# EAGLE library part MCP4922 (library nonolith)
MCP4922 12b SPI DAC
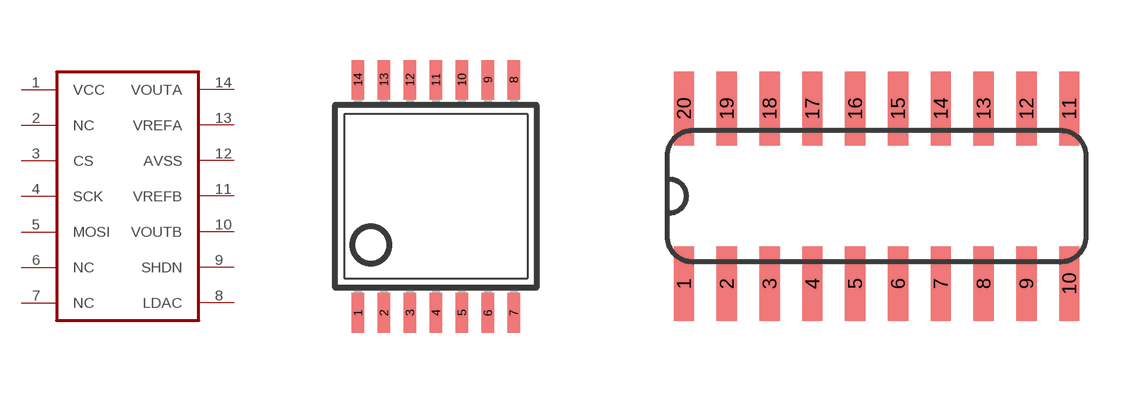
[diagram p14: symbol with the pads of TSSOP-14; footprints TSSOP-14, SO-20]

Designator prefix -

## MCP4922TSSOP  [TSSOP-14]
1  VCC
2  NC
3  CS
4  SCK
5  MOSI
6  NC
7  NC
8  LDAC
9  SHDN
10  VOUTB
11  VREFB
12  AVSS
13  VREFA
14  VOUTA

## MCP4922SOIC  [SO-20]
Pads as for TSSOP-14

## Footprint TSSOP-14 (pad centres in mm)
smd 0.305 x 0.991: 1 -1.95,-2.918; 2 -1.3,-2.918; 3 -0.65,-2.918; 4 0,-2.918; 5 0.65,-2.918; 6 1.3,-2.918; 7 1.95,-2.918; 8 1.95,2.918; 9 1.3,2.918; 10 0.65,2.918; 11 0,2.918; 12 -0.65,2.918; 13 -1.3,2.918; 14 -1.95,2.918

## Footprint SO-20 (pad centres in mm)
SO-20
smd 0.6 x 2.2: 1 -6.35,-2.6; 2 -5.08,-2.6; 3 -3.81,-2.6; 4 -2.54,-2.6; 5 -1.27,-2.6; 6 0,-2.6; 7 1.27,-2.6; 8 2.54,-2.6; 9 3.81,-2.6; 10 5.08,-2.6; 11 5.08,2.6; 12 3.81,2.6; 13 2.54,2.6; 14 1.27,2.6; 15 0,2.6; 16 -1.27,2.6; 17 -2.54,2.6; 18 -3.81,2.6; 19 -5.08,2.6; 20 -6.35,2.6